# Altium schematic symbol library LEMGO10SME-SP3.SchLib: 1 symbol
Pins are listed as number, name and electrical type; pins without a type are passive.

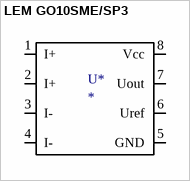
[diagram p0: symbol LEM GO10SME/SP3]

## LEM GO10SME/SP3
designator U*
footprint TSOP127P600X160-8N (TSOP, 8-Leads, Body 4,90x3,95mm, Pitch 1,27mm, IPC Medium Density)
pins: 1 I+, 2 I+, 3 I-, 4 I-, 5 GND (power), 6 Uref, 7 Uout (out), 8 Vcc (power)